# EAGLE library part NIXIE-5440-HEADER (library sibosop)
14 pin dip header used to interface with a Nixie 5440 type tube
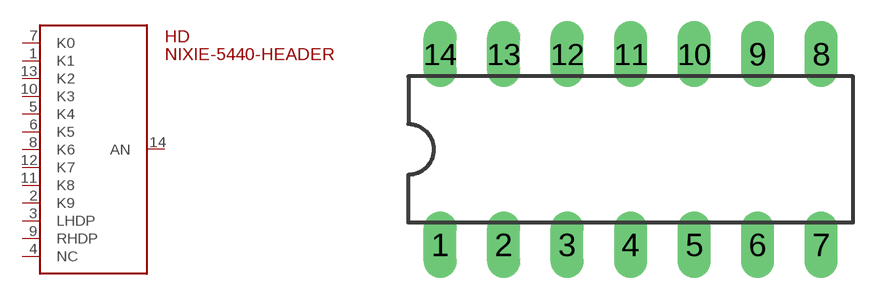
[diagram p6: symbol with the pads of DIL14; footprint DIL14]

Designator prefix HD

## NIXIE-5440-HEADER  [DIL14]
1  K1  pas
2  K9  pas
3  LHDP  pas
4  NC  pas
5  K4  pas
6  K5  pas
7  K0  pas
8  K6  pas
9  RHDP  pas
10  K3  pas
11  K8  pas
12  K7  pas
13  K2  pas
14  AN  pas

## Footprint DIL14 (pad centres in mm)
Dual In Line Package
drill 0.813 long: 1 -7.62,-3.81; 2 -5.08,-3.81; 3 -2.54,-3.81; 4 0,-3.81; 5 2.54,-3.81; 6 5.08,-3.81; 7 7.62,-3.81; 8 7.62,3.81; 9 5.08,3.81; 10 2.54,3.81; 11 0,3.81; 12 -2.54,3.81; 13 -5.08,3.81; 14 -7.62,3.81